# EAGLE library part PIC32MX250F128B (library ME433Library)
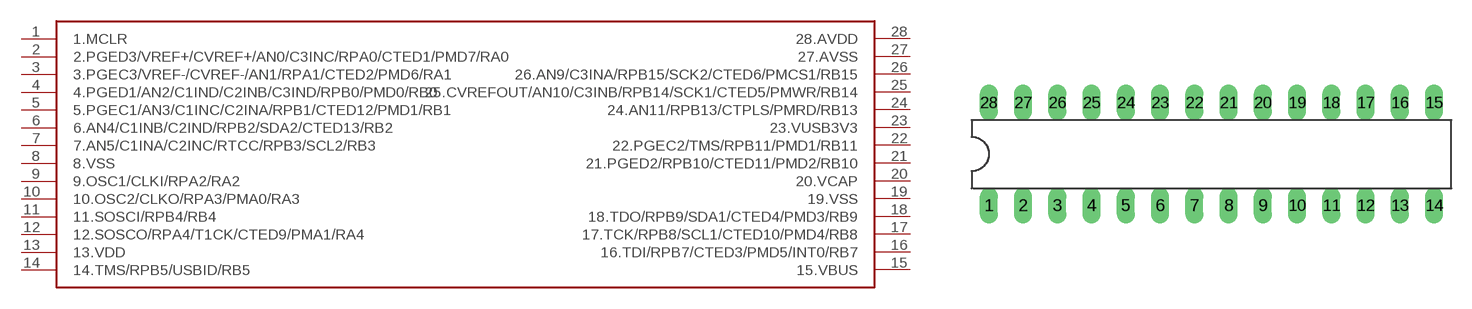
[diagram p0: symbol with the pads of DIL28-3; footprint DIL28-3]

Designator prefix -

## PIC32MX250F128B  [DIL28-3]
1  1.MCLR
2  2.PGED3/VREF+/CVREF+/AN0/C3INC/RPA0/CTED1/PMD7/RA0
3  3.PGEC3/VREF-/CVREF-/AN1/RPA1/CTED2/PMD6/RA1
4  4.PGED1/AN2/C1IND/C2INB/C3IND/RPB0/PMD0/RB0
5  5.PGEC1/AN3/C1INC/C2INA/RPB1/CTED12/PMD1/RB1
6  6.AN4/C1INB/C2IND/RPB2/SDA2/CTED13/RB2
7  7.AN5/C1INA/C2INC/RTCC/RPB3/SCL2/RB3
8  8.VSS
9  9.OSC1/CLKI/RPA2/RA2
10  10.OSC2/CLKO/RPA3/PMA0/RA3
11  11.SOSCI/RPB4/RB4
12  12.SOSCO/RPA4/T1CK/CTED9/PMA1/RA4
13  13.VDD
14  14.TMS/RPB5/USBID/RB5
15  15.VBUS
16  16.TDI/RPB7/CTED3/PMD5/INT0/RB7
17  17.TCK/RPB8/SCL1/CTED10/PMD4/RB8
18  18.TDO/RPB9/SDA1/CTED4/PMD3/RB9
19  19.VSS
20  20.VCAP
21  21.PGED2/RPB10/CTED11/PMD2/RB10
22  22.PGEC2/TMS/RPB11/PMD1/RB11
23  23.VUSB3V3
24  24.AN11/RPB13/CTPLS/PMRD/RB13
25  25.CVREFOUT/AN10/C3INB/RPB14/SCK1/CTED5/PMWR/RB14
26  26.AN9/C3INA/RPB15/SCK2/CTED6/PMCS1/RB15
27  27.AVSS
28  28.AVDD

## Footprint DIL28-3 (pad centres in mm)
Dual In Line package type P
drill 0.813 long: 1 -16.51,-3.81; 2 -13.97,-3.81; 3 -11.43,-3.81; 4 -8.89,-3.81; 5 -6.35,-3.81; 6 -3.81,-3.81; 7 -1.27,-3.81; 8 1.27,-3.81; 9 3.81,-3.81; 10 6.35,-3.81; 11 8.89,-3.81; 12 11.43,-3.81; 13 13.97,-3.81; 14 16.51,-3.81; 15 16.51,3.81; 16 13.97,3.81; 17 11.43,3.81; 18 8.89,3.81; 19 6.35,3.81; 20 3.81,3.81; 21 1.27,3.81; 22 -1.27,3.81; 23 -3.81,3.81; 24 -6.35,3.81; 25 -8.89,3.81; 26 -11.43,3.81; 27 -13.97,3.81; 28 -16.51,3.81